# Altium footprint library hsbest.PcbLib: 389 footprints (part 17 of 25)
Each footprint in its own frame and in the unit in brackets; x right, y up, seen from the top. Pads: shape width x height; smd on the part's side, far side on the other; paste and mask are expansions set on the pad; w line width, h text height; cw(c..) or ccw(c..) is an arc to the next point about the centre after c.
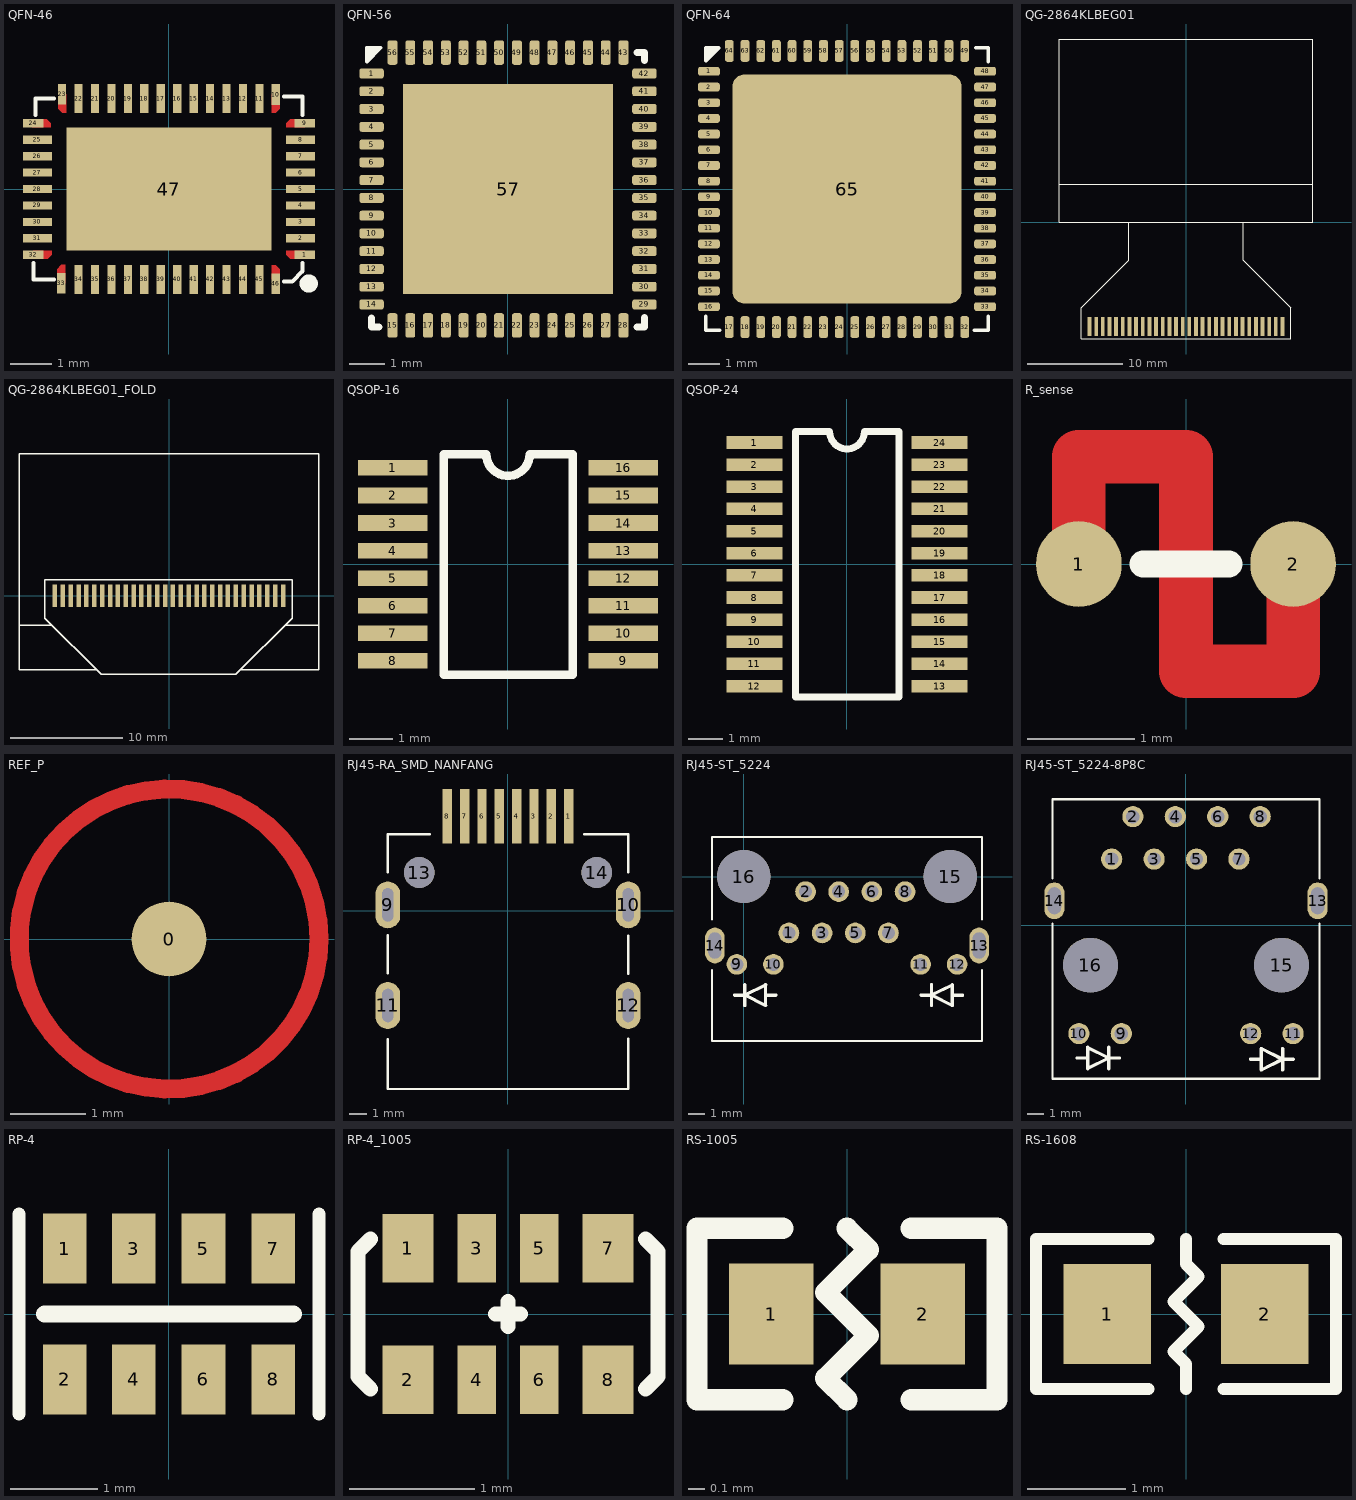
[diagram p16: the footprints below, top view; thin cyan lines are the x and y axes]

## QFN-46 [mm]
pads (47):
  rect 0.5x0.2 smd: 1(3.3,-1.6) 9(3.3,1.6) 24(-3.3,1.6) 32(-3.3,-1.6)
  rect 0.7x0.2 smd: 2(3.2,-1.2) 3(3.2,-0.8) 4(3.2,-0.4) 5(3.2,0) 6(3.2,0.4) 7(3.2,0.8) 8(3.2,1.2) 25(-3.2,1.2) 26(-3.2,0.8) 27(-3.2,0.4) 28(-3.2,0) 29(-3.2,-0.4) 30(-3.2,-0.8) 31(-3.2,-1.2)
  rect 0.2x0.5 smd: 10(2.6,2.3) 23(-2.601,2.301) 33(-2.621,-2.296) 46(2.6,-2.3)
  rect 0.2x0.7 smd: 11(2.2,2.2) 12(1.8,2.2) 13(1.4,2.2) 14(1,2.2) 15(0.6,2.2) 16(0.2,2.2) 17(-0.2,2.2) 18(-0.6,2.2) 19(-1,2.2) 20(-1.4,2.2) 21(-1.8,2.2) 22(-2.2,2.2) 34(-2.2,-2.2) 35(-1.8,-2.2) 36(-1.4,-2.2) 37(-1,-2.2) 38(-0.6,-2.2) 39(-0.2,-2.2) 40(0.2,-2.2) 41(0.6,-2.2) 42(1,-2.2) 43(1.4,-2.2) 44(1.8,-2.2) 45(2.2,-2.2)
  rect 5x3 smd: 47(0,0)
Top Layer:
  region: -3.3,-1.5 -2.85,-1.5 -2.85,-1.6 -2.95,-1.7 -3.3,-1.7
  region: -2.501,2.301 -2.501,1.851 -2.601,1.851 -2.701,1.951 -2.701,2.301
  region: -2.521,-2.296 -2.521,-1.846 -2.621,-1.846 -2.721,-1.946 -2.721,-2.296
  region: -3.327,1.5 -2.877,1.5 -2.877,1.6 -2.977,1.7 -3.327,1.7
  region: 2.7,-2.2 2.7,-1.95 2.6,-1.85 2.5,-1.85 2.5,-2.2
  region: 3.3,-1.5 2.85,-1.5 2.85,-1.6 2.95,-1.7 3.3,-1.7
  region: 3.3,1.5 2.85,1.5 2.85,1.6 2.95,1.7 3.3,1.7
  region: 2.5,2.3 2.5,1.85 2.6,1.85 2.7,1.95 2.7,2.3
Top Overlay:
  circle w0.3: c3.4,-2.3 r0.071
  lines w0.01: 3.25,1.85 3.25,1.9
  lines w0.1: -3.3,-1.8 -3.3,-2.2 -2.8,-2.2 ; -3.25,1.8 -3.25,2.2 -2.8,2.2 ; 2.8,-2.25 3,-2.25 3.25,-2 3.25,-1.8 ; 2.8,2.25 3.25,2.25 3.25,1.8
Top Solder:
  rectangle: -3.65,1.4 -2.75,1.8
  region: -2.801,2.651 -2.801,1.751 -2.401,1.751 -2.401,2.651
  region: 2.4,2.65 2.4,1.75 2.8,1.75 2.8,2.65
  region: 3.65,1.8 2.75,1.8 2.75,1.4 3.65,1.4
  region: 2.8,-2.65 2.8,-1.75 2.4,-1.75 2.4,-2.65
  region: 3.65,-1.4 2.75,-1.4 2.75,-1.8 3.65,-1.8
  rectangle: -3.65,-1.8 -2.75,-1.4
  region: -2.421,-2.646 -2.421,-1.746 -2.821,-1.746 -2.821,-2.646

## QFN-56 [mm]
pads (57):
  rrect50% 0.69x0.28 smd: 1(-3.84,3.25) 2(-3.84,2.75) 3(-3.84,2.25) 4(-3.84,1.75) 5(-3.84,1.25) 6(-3.84,0.75) 7(-3.84,0.25) 8(-3.84,-0.25) 9(-3.84,-0.75) 10(-3.84,-1.25) 11(-3.84,-1.75) 12(-3.84,-2.25) 13(-3.84,-2.75) 14(-3.84,-3.25) 29(3.84,-3.25) 30(3.84,-2.75) 31(3.84,-2.25) 32(3.84,-1.75) 33(3.84,-1.25) 34(3.84,-0.75) 35(3.84,-0.25) 36(3.84,0.25) 37(3.84,0.75) 38(3.84,1.25) 39(3.84,1.75) 40(3.84,2.25) 41(3.84,2.75) 42(3.84,3.25)
  rrect50% 0.28x0.69 smd: 15(-3.25,-3.84) 16(-2.75,-3.84) 17(-2.25,-3.84) 18(-1.75,-3.84) 19(-1.25,-3.84) 20(-0.75,-3.84) 21(-0.25,-3.84) 22(0.25,-3.84) 23(0.75,-3.84) 24(1.25,-3.84) 25(1.75,-3.84) 26(2.25,-3.84) 27(2.75,-3.84) 28(3.25,-3.84) 43(3.25,3.84) 44(2.75,3.84) 45(2.25,3.84) 46(1.75,3.84) 47(1.25,3.84) 48(0.75,3.84) 49(0.25,3.84) 50(-0.25,3.84) 51(-0.75,3.84) 52(-1.25,3.84) 53(-1.75,3.84) 54(-2.25,3.84) 55(-2.75,3.84) 56(-3.25,3.84)
  rect 5.9x5.9 smd: 57(0,0)
Top Overlay:
  lines w0.1: -3.98,3.675 -3.68,3.975 ; -3.955,3.825 -3.805,3.975 ; -3.98,3.975 -3.58,3.975 -3.98,3.575 -3.98,3.975 ; -3.98,3.975 -3.98,3.975
  lines w0.2: -3.84,-3.635 -3.84,-3.885 -3.625,-3.885 ; 3.625,-3.885 3.84,-3.885 3.84,-3.62 ; 3.625,3.84 3.84,3.84 3.84,3.615

## QFN-64 [mm]
pads (65):
  rrect50% 0.69x0.28 smd: 1(-4.4,3.75) 2(-4.4,3.25) 3(-4.4,2.75) 4(-4.4,2.25) 5(-4.4,1.75) 6(-4.4,1.25) 7(-4.4,0.75) 8(-4.4,0.25) 9(-4.4,-0.25) 10(-4.4,-0.75) 11(-4.4,-1.25) 12(-4.4,-1.75) 13(-4.4,-2.25) 14(-4.4,-2.75) 15(-4.4,-3.25) 16(-4.4,-3.75) 33(4.4,-3.75) 34(4.4,-3.25) 35(4.4,-2.75) 36(4.4,-2.25) 37(4.4,-1.75) 38(4.4,-1.25) 39(4.4,-0.75) 40(4.4,-0.25) 41(4.4,0.25) 42(4.4,0.75) 43(4.4,1.25) 44(4.4,1.75) 45(4.4,2.25) 46(4.4,2.75) 47(4.4,3.25) 48(4.4,3.75)
  rrect50% 0.28x0.69 smd: 17(-3.75,-4.4) 18(-3.25,-4.4) 19(-2.75,-4.4) 20(-2.25,-4.4) 21(-1.75,-4.4) 22(-1.25,-4.4) 23(-0.75,-4.4) 24(-0.25,-4.4) 25(0.25,-4.4) 26(0.75,-4.4) 27(1.25,-4.4) 28(1.75,-4.4) 29(2.25,-4.4) 30(2.75,-4.4) 31(3.25,-4.4) 32(3.75,-4.4) 49(3.75,4.4) 50(3.25,4.4) 51(2.75,4.4) 52(2.25,4.4) 53(1.75,4.4) 54(1.25,4.4) 55(0.75,4.4) 56(0.25,4.4) 57(-0.25,4.4) 58(-0.75,4.4) 59(-1.25,4.4) 60(-1.75,4.4) 61(-2.25,4.4) 62(-2.75,4.4) 63(-3.25,4.4) 64(-3.75,4.4)
  rrect10% 7.3x7.3 smd: 65(0,0)
Top Overlay:
  lines w0.1: -4.5,-4.05 -4.5,-4.5 -4.05,-4.5 ; -4.5,4.2 -4.2,4.5 ; -4.475,4.35 -4.325,4.5 ; 4.05,-4.5 4.5,-4.5 4.5,-4.05 ; 4.1,4.5 4.5,4.5 4.5,4.05 ; -4.5,4.5 -4.075,4.5 -4.5,4.075 -4.5,4.5 ; -4.5,4.5 -4.5,4.5

## QG-2864KLBEG01 [mm]
pads (30):
  rect 0.4x2 smd: 1(-10.15,-11) 2(-9.45,-11) 3(-8.75,-11) 4(-8.05,-11) 5(-7.35,-11) 6(-6.65,-11) 7(-5.95,-11) 8(-5.25,-11) 9(-4.55,-11) 10(-3.85,-11) 11(-3.15,-11) 12(-2.45,-11) 13(-1.75,-11) 14(-1.05,-11) 15(-0.35,-11) 16(0.35,-11) 17(1.05,-11) 18(1.75,-11) 19(2.45,-11) 20(3.15,-11) 21(3.85,-11) 22(4.55,-11) 23(5.25,-11) 24(5.95,-11) 25(6.65,-11) 26(7.35,-11) 27(8.05,-11) 28(8.75,-11) 29(9.45,-11) 30(10.15,-11)
Top Overlay:
  lines w0.127: -6,0 -6,-4 -11,-9 -11,-12.3 11,-12.3 11,-9 6,-4 6,0 ; -13.35,4 -13.35,0 13.35,0 13.35,4 ; -13.35,4 13.35,4 ; -13.35,4 -13.35,19.26 13.35,19.26 13.35,4

## QG-2864KLBEG01_FOLD [mm]
pads (30):
  rect 0.4x2 smd: 1(-10.15,0) 2(-9.45,0) 3(-8.75,0) 4(-8.05,0) 5(-7.35,0) 6(-6.65,0) 7(-5.95,0) 8(-5.25,0) 9(-4.55,0) 10(-3.85,0) 11(-3.15,0) 12(-2.45,0) 13(-1.75,0) 14(-1.05,0) 15(-0.35,0) 16(0.35,0) 17(1.05,0) 18(1.75,0) 19(2.45,0) 20(3.15,0) 21(3.85,0) 22(4.55,0) 23(5.25,0) 24(5.95,0) 25(6.65,0) 26(7.35,0) 27(8.05,0) 28(8.75,0) 29(9.45,0) 30(10.15,0)
Top Overlay:
  lines w0.127: -10.475,-2.6 -13.35,-2.6 ; -6.525,-6.6 -13.35,-6.6 -13.35,-2.6 ; 6.4,-6.6 13.35,-6.6 13.35,-2.6 ; 10.375,-2.6 13.35,-2.6 ; -13.35,-2.6 -13.35,12.66 13.35,12.66 13.35,-2.6 ; -11.05,-2 -11.05,1.45 10.95,1.45 10.95,-2 5.95,-7 -6.05,-7 -11.05,-2

## QSOP-16 [mm]
pads (16):
  rect 1.6x0.36 smd: 1(-2.655,2.222) 2(-2.655,1.587) 3(-2.655,0.953) 4(-2.655,0.318) 5(-2.655,-0.318) 6(-2.655,-0.953) 7(-2.655,-1.587) 8(-2.655,-2.222) 9(2.655,-2.222) 10(2.655,-1.587) 11(2.655,-0.953) 12(2.655,-0.318) 13(2.655,0.318) 14(2.655,0.953) 15(2.655,1.587) 16(2.655,2.222)
Top Overlay:
  lines w0.2: 1.495,-2.54 -1.48,-2.54 -1.48,2.54 -0.5,2.54 ccw(c0,2.54) 0.5,2.54 1.495,2.54 1.495,-2.52

## QSOP-24 [mm]
pads (24):
  rect 1.6x0.36 smd: 1(-2.655,3.492) 2(-2.655,2.857) 3(-2.655,2.222) 4(-2.655,1.587) 5(-2.655,0.953) 6(-2.655,0.318) 7(-2.655,-0.318) 8(-2.655,-0.953) 9(-2.655,-1.587) 10(-2.655,-2.222) 11(-2.655,-2.857) 12(-2.655,-3.492) 13(2.655,-3.492) 14(2.655,-2.857) 15(2.655,-2.222) 16(2.655,-1.587) 17(2.655,-0.953) 18(2.655,-0.318) 19(2.655,0.318) 20(2.655,0.953) 21(2.655,1.587) 22(2.655,2.222) 23(2.655,2.857) 24(2.655,3.492)
Top Overlay:
  lines w0.2: -1.48,-3.81 1.495,-3.81 1.495,3.81 0.5,3.81 cw(c0,3.81) -0.5,3.81 -1.48,3.81 -1.48,-3.81

## R_sense [mm]
pads (2):
  round 0.8 smd: 1(-1,0) 2(1,0)
Top Layer:
  lines w0.5: -1,0 -1,1 0,1 0,-1 0.975,-1 ; 1,-1 1,0
Top Overlay:
  lines w0.254: -0.4,0 0.4,0

## REF_P [mm]
pads (1):
  round 1 smd: 0(0,0)
Top Layer:
  circle w0.254: c0,0 r2

## RJ45-RA_SMD_NANFANG [mm]
pads (14):
  rect 0.55x3.2 smd: 1(3.556,5.55) 2(2.54,5.55) 3(1.524,5.55) 4(0.508,5.55) 5(-0.508,5.55) 6(-1.524,5.55) 7(-2.54,5.55) 8(-3.556,5.55)
  oval 1.45x2.75 hole 0.65 slot 1.95 at 90 deg: 9(-7.05,0.35) 10(7.05,0.35) 11(-7.05,-5.55) 12(7.05,-5.55)
  round 1.8 hole 1.8: 13(-5.2,2.25) 14(5.2,2.25)
Top Overlay:
  lines w0.127: -7.05,-7.525 -7.05,-10.45 7.05,-10.45 7.05,-7.5 ; -7.05,-3.681 -7.05,-1.425 ; -7.05,2.25 -7.05,4.5 -4.575,4.5 ; 4.45,4.5 7.05,4.5 7.05,2.25 ; 7.05,-3.7 7.05,-1.45

## RJ45-ST_5224 [mm]
pads (16):
  round 1.27 hole 0.8: 1(2.78,-3.47) 2(3.8,-0.93) 3(4.82,-3.47) 4(5.84,-0.93) 5(6.86,-3.47) 6(7.88,-0.93) 7(8.9,-3.47) 8(9.92,-0.93) 9(-0.425,-5.4) 10(1.825,-5.4) 11(10.875,-5.4) 12(13.125,-5.4)
  oval 1.2x2.2 hole 0.8 slot 1.6 at 90 deg: 13(14.475,-4.24) 14(-1.775,-4.24)
  round 3.27 hole 3.27: 15(12.7,0) 16(0,0)
Top Overlay:
  lines w0.127: -1.95,-5.734 -1.95,-10.1 14.65,-10.1 14.65,-5.734 ; -1.95,-2.65 -1.95,2.42 14.65,2.42 14.65,-2.65 ; -0.579,-7.255 -0.603,-7.279 -0.603,-7.31 -0.579,-7.334 -0.564,-7.334 0.071,-7.334 ; -0.564,-7.255 0.071,-7.255 0.087,-7.255 0.111,-7.279 0.111,-7.31 0.087,-7.334 ; 0.032,-6.659 0.032,-7.929 0.032,-7.945 0.056,-7.969 0.087,-7.969 0.111,-7.945 ; 0.032,-6.644 0.056,-6.62 0.087,-6.62 0.111,-6.644 0.111,-6.659 0.111,-7.929 ; 0.04,-7.266 0.029,-7.298 0.043,-7.326 0.075,-7.336 0.089,-7.329 1.359,-6.694 ; 0.054,-7.259 1.324,-6.624 1.337,-6.617 1.37,-6.628 1.383,-6.655 1.373,-6.687 ; 0.075,-7.252 0.043,-7.263 0.029,-7.29 0.04,-7.322 0.054,-7.329 1.324,-7.964 ; 0.089,-7.259 1.359,-7.894 1.373,-7.901 1.383,-7.933 1.37,-7.961 1.337,-7.971 ; 1.302,-6.659 1.302,-7.929 1.302,-7.945 1.326,-7.969 1.357,-7.969 1.381,-7.945 ; 1.302,-6.644 1.326,-6.62 1.357,-6.62 1.381,-6.644 1.381,-6.659 1.381,-7.929 ; 1.326,-7.255 1.302,-7.279 1.302,-7.31 1.326,-7.334 1.341,-7.334 1.976,-7.334 ; 1.341,-7.255 1.976,-7.255 1.992,-7.255 2.016,-7.279 2.016,-7.31 1.992,-7.334 ; 10.896,-7.255 10.872,-7.279 10.872,-7.31 10.896,-7.334 10.912,-7.334 11.547,-7.334 ; 10.912,-7.255 11.547,-7.255 11.562,-7.255 11.586,-7.279 11.586,-7.31 11.562,-7.334 ; 11.507,-6.659 11.507,-7.929 11.507,-7.945 11.531,-7.969 11.562,-7.969 11.586,-7.945 ; 11.507,-6.644 11.531,-6.62 11.562,-6.62 11.586,-6.644 11.586,-6.659 11.586,-7.929 ; 11.515,-7.266 11.504,-7.298 11.518,-7.326 11.55,-7.336 11.564,-7.329 12.834,-6.694 ; 11.529,-7.259 12.799,-6.624 12.813,-6.617 12.845,-6.628 12.859,-6.655 12.848,-6.687 ; 11.55,-7.252 11.518,-7.263 11.504,-7.29 11.515,-7.322 11.529,-7.329 12.799,-7.964 ; 11.564,-7.259 12.834,-7.894 12.848,-7.901 12.859,-7.933 12.845,-7.961 12.813,-7.971 ; 12.777,-6.659 12.777,-7.929 12.777,-7.945 12.801,-7.969 12.832,-7.969 12.856,-7.945 ; 12.777,-6.644 12.801,-6.62 12.832,-6.62 12.856,-6.644 12.856,-6.659 12.856,-7.929 ; 12.801,-7.255 12.777,-7.279 12.777,-7.31 12.801,-7.334 12.817,-7.334 13.452,-7.334 ; 12.817,-7.255 13.452,-7.255 13.467,-7.255 13.491,-7.279 13.491,-7.31 13.467,-7.334

## RJ45-ST_5224-8P8C [mm]
pads (16):
  round 1.27 hole 0.8: 1(-4.45,3.955) 2(-3.18,6.495) 3(-1.91,3.955) 4(-0.64,6.495) 5(0.63,3.955) 6(1.9,6.495) 7(3.17,3.955) 8(4.44,6.495) 9(-3.87,-6.495) 10(-6.41,-6.495) 11(6.41,-6.495) 12(3.87,-6.495)
  oval 1.2x2.2 hole 0.8 slot 1.6 at 90 deg: 13(7.88,1.455) 14(-7.88,1.455)
  round 3.27 hole 3.27: 15(5.72,-2.395) 16(-5.72,-2.395)
Top Overlay:
  lines w0.127: -8,0.081 -8,-9.195 8,-9.195 8,0.081 ; -8,2.781 -8,7.531 8,7.531 8,2.781 ; -6.541,-7.915 -6.565,-7.939 -6.565,-7.97 -6.541,-7.994 -6.526,-7.994 -5.891,-7.994 ; -6.526,-7.915 -5.891,-7.915 -5.875,-7.915 -5.851,-7.939 -5.851,-7.97 -5.875,-7.994 ; -5.93,-7.32 -5.93,-8.59 -5.93,-8.605 -5.906,-8.629 -5.875,-8.629 -5.851,-8.605 ; -5.93,-7.304 -5.906,-7.28 -5.875,-7.28 -5.851,-7.304 -5.851,-7.32 -5.851,-8.59 ; -5.922,-8.561 -5.933,-8.593 -5.919,-8.621 -5.887,-8.632 -5.873,-8.625 -4.603,-7.99 ; -5.909,-8.554 -4.639,-7.919 -4.625,-7.912 -4.593,-7.923 -4.579,-7.951 -4.59,-7.983 ; -5.887,-7.277 -5.919,-7.288 -5.933,-7.316 -5.922,-7.348 -5.909,-7.355 -4.639,-7.99 ; -5.873,-7.284 -4.603,-7.919 -4.589,-7.926 -4.579,-7.958 -4.593,-7.986 -4.625,-7.997 ; -4.66,-7.32 -4.66,-8.59 -4.66,-8.605 -4.636,-8.629 -4.605,-8.629 -4.581,-8.605 ; -4.66,-7.304 -4.636,-7.28 -4.605,-7.28 -4.581,-7.304 -4.581,-7.32 -4.581,-8.59 ; -4.636,-7.915 -4.66,-7.939 -4.66,-7.97 -4.636,-7.994 -4.621,-7.994 -3.986,-7.994 ; -4.621,-7.915 -3.986,-7.915 -3.97,-7.915 -3.946,-7.939 -3.946,-7.97 -3.97,-7.994 ; 3.859,-7.99 3.835,-8.014 3.835,-8.045 3.859,-8.069 3.874,-8.069 4.509,-8.069 ; 3.874,-7.99 4.509,-7.99 4.525,-7.99 4.549,-8.014 4.549,-8.045 4.525,-8.069 ; 4.47,-7.395 4.47,-8.665 4.47,-8.68 4.494,-8.704 4.525,-8.704 4.549,-8.68 ; 4.47,-7.379 4.494,-7.355 4.525,-7.355 4.549,-7.379 4.549,-7.395 4.549,-8.665 ; 4.478,-8.636 4.467,-8.668 4.481,-8.696 4.513,-8.707 4.527,-8.7 5.797,-8.065 ; 4.492,-8.629 5.762,-7.994 5.776,-7.987 5.808,-7.998 5.822,-8.026 5.811,-8.058 ; 4.513,-7.352 4.481,-7.363 4.467,-7.391 4.478,-7.423 4.492,-7.43 5.762,-8.065 ; 4.527,-7.359 5.797,-7.994 5.811,-8.001 5.822,-8.033 5.808,-8.061 5.776,-8.072 ; 5.74,-7.395 5.74,-8.665 5.74,-8.68 5.764,-8.704 5.795,-8.704 5.819,-8.68 ; 5.74,-7.379 5.764,-7.355 5.795,-7.355 5.819,-7.379 5.819,-7.395 5.819,-8.665 ; 5.764,-7.99 5.74,-8.014 5.74,-8.045 5.764,-8.069 5.779,-8.069 6.414,-8.069 ; 5.779,-7.99 6.414,-7.99 6.43,-7.99 6.454,-8.014 6.454,-8.045 6.43,-8.069

## RP-4 [mm]
pads (8):
  rect 0.5x0.8 smd: 1(-1.195,0.75) 2(-1.195,-0.75) 3(-0.405,0.75) 4(-0.405,-0.75) 5(0.395,0.75) 6(0.395,-0.75) 7(1.195,0.75) 8(1.195,-0.75)
Top Overlay:
  lines w0.154: -1.719,-1.142 -1.719,1.142 ; 1.719,-1.142 1.719,1.142
  lines w0.2: -1.422,0 1.422,0

## RP-4_1005 [mm]
pads (8):
  rect 0.406x0.55 smd: 1(-0.8,0.525) 2(-0.8,-0.525) 7(0.8,0.525) 8(0.8,-0.525)
  rect 0.305x0.55 smd: 3(-0.25,0.525) 4(-0.25,-0.525) 5(0.25,0.525) 6(0.25,-0.525)
Top Overlay:
  lines w0.12: -1.1,-0.6 -1.2,-0.5 -1.2,0.5 -1.1,0.6 ; -0.1,0 0.1,0 ; 0,-0.1 0,0.1 ; 1.1,-0.6 1.2,-0.5 1.2,0.5 1.1,0.6

## RS-1005 [mm]
pads (2):
  rect 0.5x0.6 smd: 1(-0.45,0) 2(0.45,0)
Top Overlay:
  lines w0.125: -0.381,-0.508 -0.889,-0.508 -0.889,0.508 -0.381,0.508 ; 0,-0.508 -0.127,-0.381 0.127,-0.127 -0.127,0.127 0.127,0.381 0,0.508 ; 0.381,-0.508 0.889,-0.508 0.889,0.508 0.381,0.508

## RS-1608 [mil]
pads (2):
  rect 35x40 smd: 1(-31.5,0) 2(31.5,0)
Top Overlay:
  lines w4.92: -15,-30 -60,-30 -60,30 -15,30 ; 0,-30 0,-20 -5,-15 5,-5 -5,5 5,15 0,20 0,30 ; 15,-30 60,-30 60,30 15,30